# EAGLE library part XC3S-VQ100 (library Xilinx)
Xilinx Spartan 3 FPGA in VQ100 package
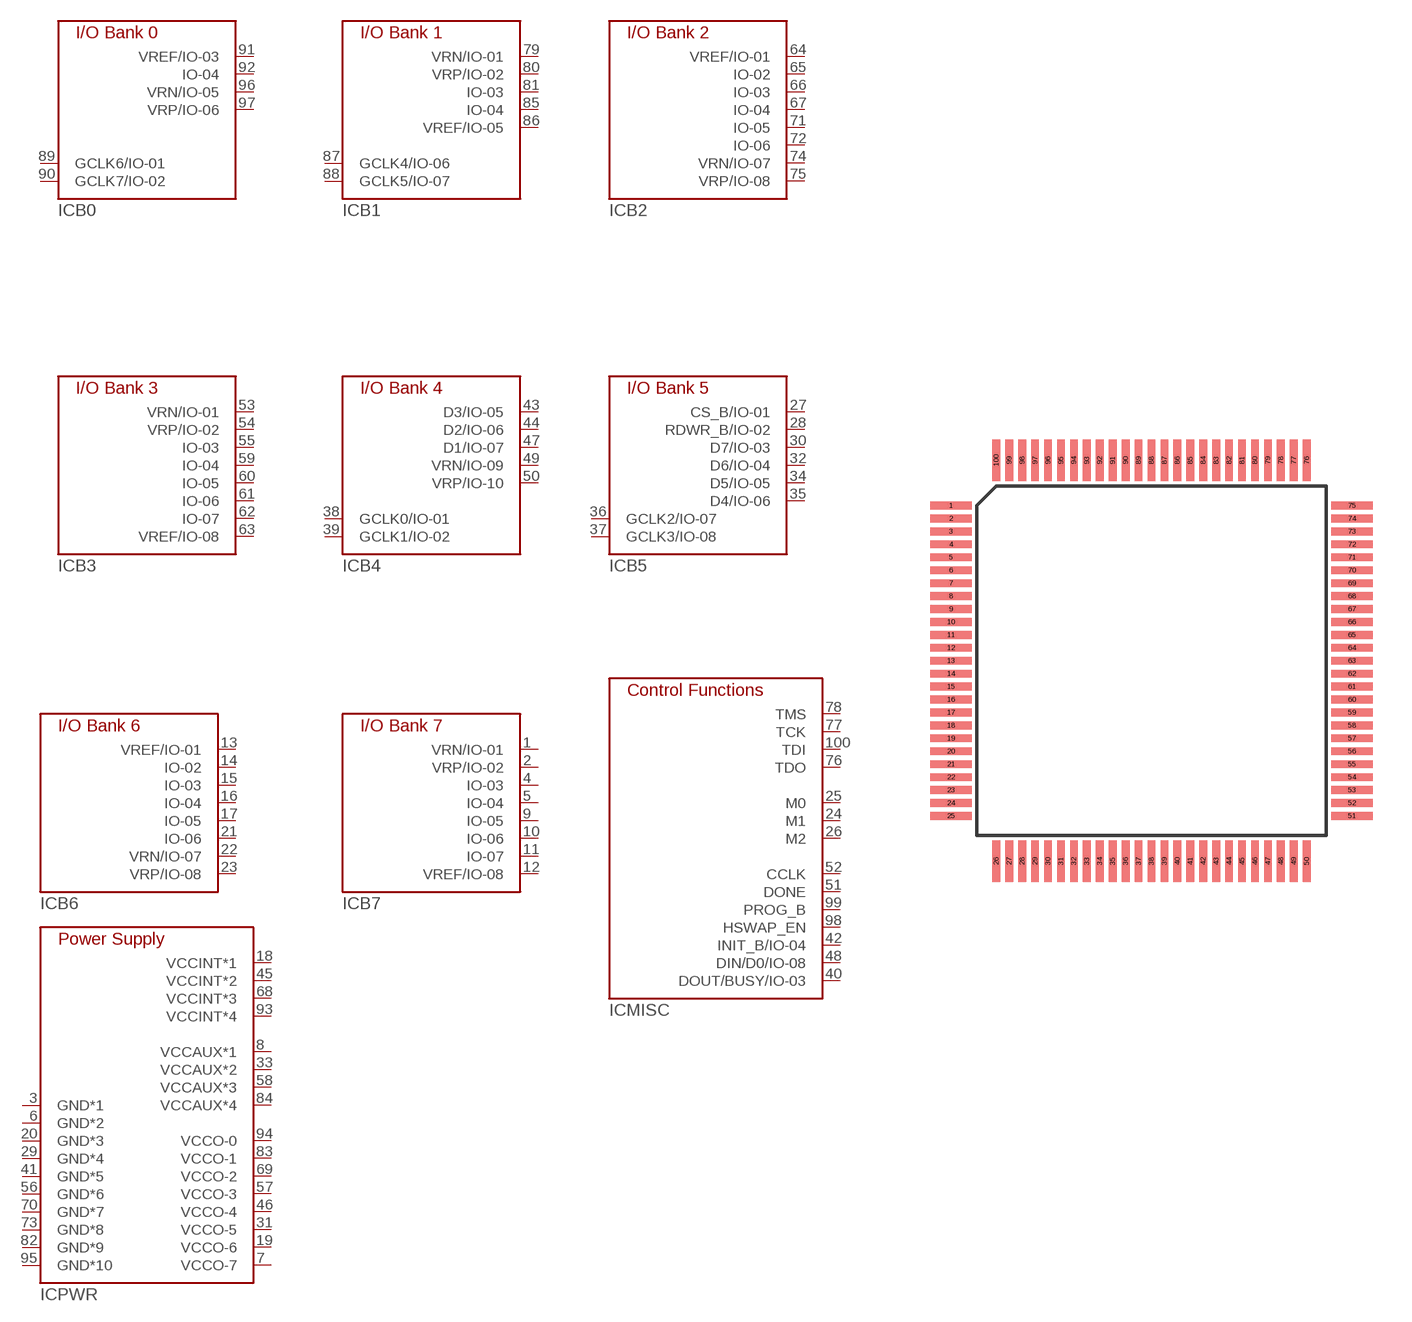
[diagram p20: symbol with the pads of VQ100; footprint VQ100]

Designator prefix IC; gates B0=XC3S/VQ100-B0 B1=XC3S/VQ100-B1 B2=XC3S/VQ100-B2 B4=XC3S/VQ100-B4 B5=XC3S/VQ100-B5 B6=XC3S/VQ100-B6 B7=XC3S/VQ100-B7 MISC=XC3S/VQ100-MISC B3=XC3S/VQ100-B3 PWR=XC3S/VQ100-PWR

## XC3S-VQ100  [VQ100]
1  B7:VRN/IO-01
2  B7:VRP/IO-02
3  PWR:GND*1  pwr
4  B7:IO-03
5  B7:IO-04
6  PWR:GND*2  pwr
7  PWR:VCCO-7  pwr
8  PWR:VCCAUX*1  pwr
9  B7:IO-05
10  B7:IO-06
11  B7:IO-07
12  B7:VREF/IO-08
13  B6:VREF/IO-01
14  B6:IO-02
15  B6:IO-03
16  B6:IO-04
17  B6:IO-05
18  PWR:VCCINT*1  pwr
19  PWR:VCCO-6  pwr
20  PWR:GND*3  pwr
21  B6:IO-06
22  B6:VRN/IO-07
23  B6:VRP/IO-08
24  MISC:M1
25  MISC:M0
26  MISC:M2
27  B5:CS_B/IO-01
28  B5:RDWR_B/IO-02
29  PWR:GND*4  pwr
30  B5:D7/IO-03
31  PWR:VCCO-5  pwr
32  B5:D6/IO-04
33  PWR:VCCAUX*2  pwr
34  B5:D5/IO-05
35  B5:D4/IO-06
36  B5:GCLK2/IO-07
37  B5:GCLK3/IO-08
38  B4:GCLK0/IO-01
39  B4:GCLK1/IO-02
40  MISC:DOUT/BUSY/IO-03
41  PWR:GND*5  pwr
42  MISC:INIT_B/IO-04
43  B4:D3/IO-05
44  B4:D2/IO-06
45  PWR:VCCINT*2  pwr
46  PWR:VCCO-4  pwr
47  B4:D1/IO-07
48  MISC:DIN/D0/IO-08
49  B4:VRN/IO-09
50  B4:VRP/IO-10
51  MISC:DONE
52  MISC:CCLK
53  B3:VRN/IO-01
54  B3:VRP/IO-02
55  B3:IO-03
56  PWR:GND*6  pwr
57  PWR:VCCO-3  pwr
58  PWR:VCCAUX*3  pwr
59  B3:IO-04
60  B3:IO-05
61  B3:IO-06
62  B3:IO-07
63  B3:VREF/IO-08
64  B2:VREF/IO-01
65  B2:IO-02
66  B2:IO-03
67  B2:IO-04
68  PWR:VCCINT*3  pwr
69  PWR:VCCO-2  pwr
70  PWR:GND*7  pwr
71  B2:IO-05
72  B2:IO-06
73  PWR:GND*8  pwr
74  B2:VRN/IO-07
75  B2:VRP/IO-08
76  MISC:TDO
77  MISC:TCK
78  MISC:TMS
79  B1:VRN/IO-01
80  B1:VRP/IO-02
81  B1:IO-03
82  PWR:GND*9  pwr
83  PWR:VCCO-1  pwr
84  PWR:VCCAUX*4  pwr
85  B1:IO-04
86  B1:VREF/IO-05
87  B1:GCLK4/IO-06
88  B1:GCLK5/IO-07
89  B0:GCLK6/IO-01
90  B0:GCLK7/IO-02
91  B0:VREF/IO-03
92  B0:IO-04
93  PWR:VCCINT*4  pwr
94  PWR:VCCO-0  pwr
95  PWR:GND*10  pwr
96  B0:VRN/IO-05
97  B0:VRP/IO-06
98  MISC:HSWAP_EN
99  MISC:PROG_B
100  MISC:TDI

## Footprint VQ100 (pad centres in mm)
smd 1.6 x 0.3: 1 -7.75,6; 2 -7.75,5.5; 3 -7.75,5; 4 -7.75,4.5; 5 -7.75,4; 6 -7.75,3.5; 7 -7.75,3; 8 -7.75,2.5; 9 -7.75,2; 10 -7.75,1.5; 11 -7.75,1; 12 -7.75,0.5; 13 -7.75,0; 14 -7.75,-0.5; 15 -7.75,-1; 16 -7.75,-1.5; 17 -7.75,-2; 18 -7.75,-2.5; 19 -7.75,-3; 20 -7.75,-3.5; 21 -7.75,-4; 22 -7.75,-4.5; 23 -7.75,-5; 24 -7.75,-5.5; 25 -7.75,-6; 51 7.75,-6; 52 7.75,-5.5; 53 7.75,-5; 54 7.75,-4.5; 55 7.75,-4; 56 7.75,-3.5; 57 7.75,-3; 58 7.75,-2.5; 59 7.75,-2; 60 7.75,-1.5; 61 7.75,-1; 62 7.75,-0.5; 63 7.75,0; 64 7.75,0.5; 65 7.75,1; 66 7.75,1.5; 67 7.75,2; 68 7.75,2.5; 69 7.75,3; 70 7.75,3.5; 71 7.75,4; 72 7.75,4.5; 73 7.75,5; 74 7.75,5.5; 75 7.75,6
smd 0.3 x 1.6: 26 -6,-7.75; 27 -5.5,-7.75; 28 -5,-7.75; 29 -4.5,-7.75; 30 -4,-7.75; 31 -3.5,-7.75; 32 -3,-7.75; 33 -2.5,-7.75; 34 -2,-7.75; 35 -1.5,-7.75; 36 -1,-7.75; 37 -0.5,-7.75; 38 0,-7.75; 39 0.5,-7.75; 40 1,-7.75; 41 1.5,-7.75; 42 2,-7.75; 43 2.5,-7.75; 44 3,-7.75; 45 3.5,-7.75; 46 4,-7.75; 47 4.5,-7.75; 48 5,-7.75; 49 5.5,-7.75; 50 6,-7.75; 76 6,7.75; 77 5.5,7.75; 78 5,7.75; 79 4.5,7.75; 80 4,7.75; 81 3.5,7.75; 82 3,7.75; 83 2.5,7.75; 84 2,7.75; 85 1.5,7.75; 86 1,7.75; 87 0.5,7.75; 88 0,7.75; 89 -0.5,7.75; 90 -1,7.75; 91 -1.5,7.75; 92 -2,7.75; 93 -2.5,7.75; 94 -3,7.75; 95 -3.5,7.75; 96 -4,7.75; 97 -4.5,7.75; 98 -5,7.75; 99 -5.5,7.75; 100 -6,7.75